# Altium schematic symbol library SCH - MCU - RENESAS - RENESAS R7FS1JA7XXXXXXFM 64LQFP.SchLib: 1 symbol
Pins are listed as number, name and electrical type; pins without a type are passive.

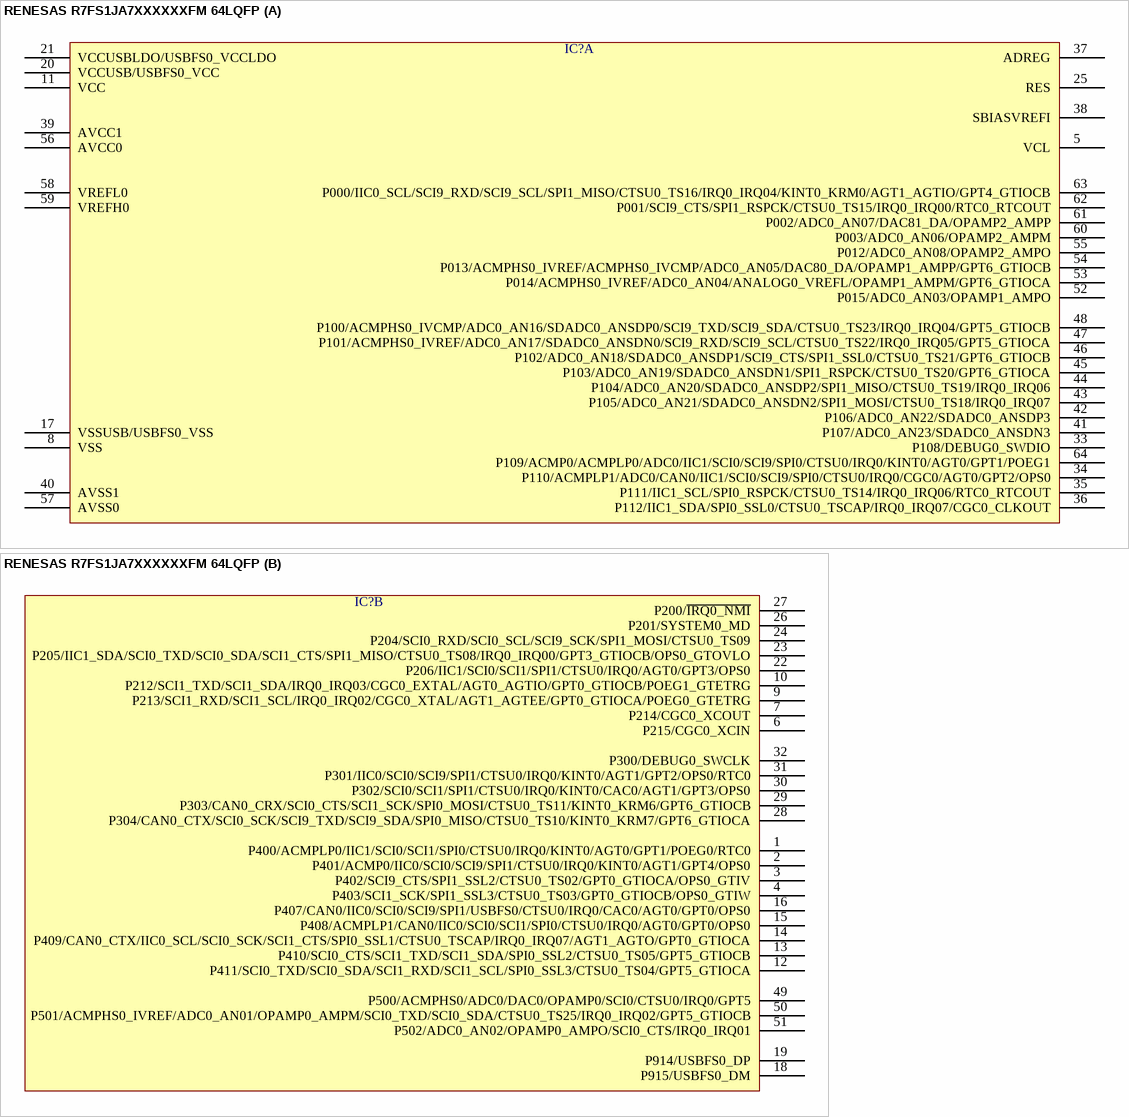
[diagram p0: symbol RENESAS R7FS1JA7XXXXXXFM 64LQFP]

## RENESAS R7FS1JA7XXXXXXFM 64LQFP
designator IC?  (value not drawn)
part A pins: 5 VCL, 8 VSS, 11 VCC, 17 VSSUSB/USBFS0_VSS, 20 VCCUSB/USBFS0_VCC, 21 VCCUSBLDO/USBFS0_VCCLDO, 25 RES, 33 P108/DEBUG0_SWDIO, 34 P110/ACMPLP1/ADC0/CAN0/IIC1/SCI0/SCI9/SPI0/CTSU0/IRQ0/CGC0/AGT0/GPT2/OPS0, 35 P111/IIC1_SCL/SPI0_RSPCK/CTSU0_TS14/IRQ0_IRQ06/RTC0_RTCOUT, 36 P112/IIC1_SDA/SPI0_SSL0/CTSU0_TSCAP/IRQ0_IRQ07/CGC0_CLKOUT, 37 ADREG, 38 SBIASVREFI, 39 AVCC1, 40 AVSS1, 41 P107/ADC0_AN23/SDADC0_ANSDN3, 42 P106/ADC0_AN22/SDADC0_ANSDP3, 43 P105/ADC0_AN21/SDADC0_ANSDN2/SPI1_MOSI/CTSU0_TS18/IRQ0_IRQ07, 44 P104/ADC0_AN20/SDADC0_ANSDP2/SPI1_MISO/CTSU0_TS19/IRQ0_IRQ06, 45 P103/ADC0_AN19/SDADC0_ANSDN1/SPI1_RSPCK/CTSU0_TS20/GPT6_GTIOCA, 46 P102/ADC0_AN18/SDADC0_ANSDP1/SCI9_CTS/SPI1_SSL0/CTSU0_TS21/GPT6_GTIOCB, 47 P101/ACMPHS0_IVREF/ADC0_AN17/SDADC0_ANSDN0/SCI9_RXD/SCI9_SCL/CTSU0_TS22/IRQ0_IRQ05/GPT5_GTIOCA, 48 P100/ACMPHS0_IVCMP/ADC0_AN16/SDADC0_ANSDP0/SCI9_TXD/SCI9_SDA/CTSU0_TS23/IRQ0_IRQ04/GPT5_GTIOCB, 52 P015/ADC0_AN03/OPAMP1_AMPO, 53 P014/ACMPHS0_IVREF/ADC0_AN04/ANALOG0_VREFL/OPAMP1_AMPM/GPT6_GTIOCA, 54 P013/ACMPHS0_IVREF/ACMPHS0_IVCMP/ADC0_AN05/DAC80_DA/OPAMP1_AMPP/GPT6_GTIOCB, 55 P012/ADC0_AN08/OPAMP2_AMPO, 56 AVCC0, 57 AVSS0, 58 VREFL0, 59 VREFH0, 60 P003/ADC0_AN06/OPAMP2_AMPM, 61 P002/ADC0_AN07/DAC81_DA/OPAMP2_AMPP, 62 P001/SCI9_CTS/SPI1_RSPCK/CTSU0_TS15/IRQ0_IRQ00/RTC0_RTCOUT, 63 P000/IIC0_SCL/SCI9_RXD/SCI9_SCL/SPI1_MISO/CTSU0_TS16/IRQ0_IRQ04/KINT0_KRM0/AGT1_AGTIO/GPT4_GTIOCB, 64 P109/ACMP0/ACMPLP0/ADC0/IIC1/SCI0/SCI9/SPI0/CTSU0/IRQ0/KINT0/AGT0/GPT1/POEG1
part B pins: 1 P400/ACMPLP0/IIC1/SCI0/SCI1/SPI0/CTSU0/IRQ0/KINT0/AGT0/GPT1/POEG0/RTC0, 2 P401/ACMP0/IIC0/SCI0/SCI9/SPI1/CTSU0/IRQ0/KINT0/AGT1/GPT4/OPS0, 3 P402/SCI9_CTS/SPI1_SSL2/CTSU0_TS02/GPT0_GTIOCA/OPS0_GTIV, 4 P403/SCI1_SCK/SPI1_SSL3/CTSU0_TS03/GPT0_GTIOCB/OPS0_GTIW, 6 P215/CGC0_XCIN, 7 P214/CGC0_XCOUT, 9 P213/SCI1_RXD/SCI1_SCL/IRQ0_IRQ02/CGC0_XTAL/AGT1_AGTEE/GPT0_GTIOCA/POEG0_GTETRG, 10 P212/SCI1_TXD/SCI1_SDA/IRQ0_IRQ03/CGC0_EXTAL/AGT0_AGTIO/GPT0_GTIOCB/POEG1_GTETRG, 12 P411/SCI0_TXD/SCI0_SDA/SCI1_RXD/SCI1_SCL/SPI0_SSL3/CTSU0_TS04/GPT5_GTIOCA, 13 P410/SCI0_CTS/SCI1_TXD/SCI1_SDA/SPI0_SSL2/CTSU0_TS05/GPT5_GTIOCB, 14 P409/CAN0_CTX/IIC0_SCL/SCI0_SCK/SCI1_CTS/SPI0_SSL1/CTSU0_TSCAP/IRQ0_IRQ07/AGT1_AGTO/GPT0_GTIOCA, 15 P408/ACMPLP1/CAN0/IIC0/SCI0/SCI1/SPI0/CTSU0/IRQ0/AGT0/GPT0/OPS0, 16 P407/CAN0/IIC0/SCI0/SCI9/SPI1/USBFS0/CTSU0/IRQ0/CAC0/AGT0/GPT0/OPS0, 18 P915/USBFS0_DM, 19 P914/USBFS0_DP, 22 P206/IIC1/SCI0/SCI1/SPI1/CTSU0/IRQ0/AGT0/GPT3/OPS0, 23 P205/IIC1_SDA/SCI0_TXD/SCI0_SDA/SCI1_CTS/SPI1_MISO/CTSU0_TS08/IRQ0_IRQ00/GPT3_GTIOCB/OPS0_GTOVLO, 24 P204/SCI0_RXD/SCI0_SCL/SCI9_SCK/SPI1_MOSI/CTSU0_TS09, 26 P201/SYSTEM0_MD, 27 P200/~{IRQ0_NMI}, 28 P304/CAN0_CTX/SCI0_SCK/SCI9_TXD/SCI9_SDA/SPI0_MISO/CTSU0_TS10/KINT0_KRM7/GPT6_GTIOCA, 29 P303/CAN0_CRX/SCI0_CTS/SCI1_SCK/SPI0_MOSI/CTSU0_TS11/KINT0_KRM6/GPT6_GTIOCB, 30 P302/SCI0/SCI1/SPI1/CTSU0/IRQ0/KINT0/CAC0/AGT1/GPT3/OPS0, 31 P301/IIC0/SCI0/SCI9/SPI1/CTSU0/IRQ0/KINT0/AGT1/GPT2/OPS0/RTC0, 32 P300/DEBUG0_SWCLK, 49 P500/ACMPHS0/ADC0/DAC0/OPAMP0/SCI0/CTSU0/IRQ0/GPT5, 50 P501/ACMPHS0_IVREF/ADC0_AN01/OPAMP0_AMPM/SCI0_TXD/SCI0_SDA/CTSU0_TS25/IRQ0_IRQ02/GPT5_GTIOCB, 51 P502/ADC0_AN02/OPAMP0_AMPO/SCI0_CTS/IRQ0_IRQ01